# Altium schematic symbol library Battery.SchLib: 4 symbols
Pins are listed as number, name and electrical type; pins without a type are passive.

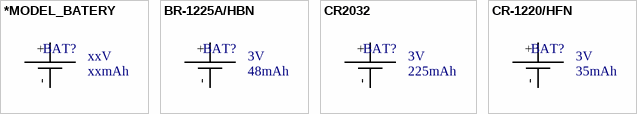
[diagram p0: symbols *MODEL_BATERY to CR-1220/HFN]

## *MODEL_BATERY
designator BAT?, comment value xxV  Capacity: xxmAh  (hidden comment: Part Number)
Description; Mount Type: *; Manufacturer: *; Type: *
pins: +, -

## BR-1225A/HBN
designator BAT?  value 3V  Capacity: 48mAh  (hidden comment: BR-1225A/HBN)
BATTERY LITH COIN HITEMP PC PINS; Manufacturer: Panasonic - BSG; Mount Type: PTH; Type: Lithium; Supplier 1: Newark; Supplier 2: Farnell; Supplier 3: Allied; Supplier 4: Digi-Key; Supplier 5: Mouser; Supplier Part Number 1: 73C7228; Supplier Part Number 2: 2314576; Supplier Part Number 3: 70196959; Supplier Part Number 4: P061-ND; Supplier Part Number 5: 658-BR1225A/HB
footprint BR-1225A
pins: +, -

## CR2032
designator BAT?  value 3V  Capacity: 225mAh  (hidden comment: CR2032)
BATTERY LITHIUM COIN 3V 20MM; Manufacturer: Panasonic - BSG; Mount Type: PTH; Type: Lithium; Supplier 1: Digi-Key; Supplier 2: Newark; Supplier 3: Mouser; Supplier 4: Allied; Supplier 5: Arrow; Supplier Part Number 1: P189-ND; Supplier Part Number 2: 13C1019; Supplier Part Number 3: 658-CR2032; Supplier Part Number 4: 70196848; Supplier Part Number 5: 48900035S8436893N3386
footprint BU2032 - CELL HOLDER
pins: +, -

## CR-1220/HFN
designator BAT?  value 3V  Capacity: 35mAh  (hidden comment: CR-1220/HFN)
BATTERY LITHIUM 3V COIN 12.5MM; Manufacturer: Panasonic - BSG; Mount Type: PTH; Type: Lithium; Supplier 1: Digi-Key; Supplier Part Number 1: P244-ND; Supplier 2: Mouser; Supplier Part Number 2: 658-CR1220/HFN; Supplier 3: Farnell; Supplier Part Number 3: 1298244
footprint BR-1225A
pins: +, -